# EAGLE library part KONASHI1.0 (library konashiv2)
konashiは、スマホ・タブレット端末と連携するフィジカルコンピューティングのためのツールキットです。
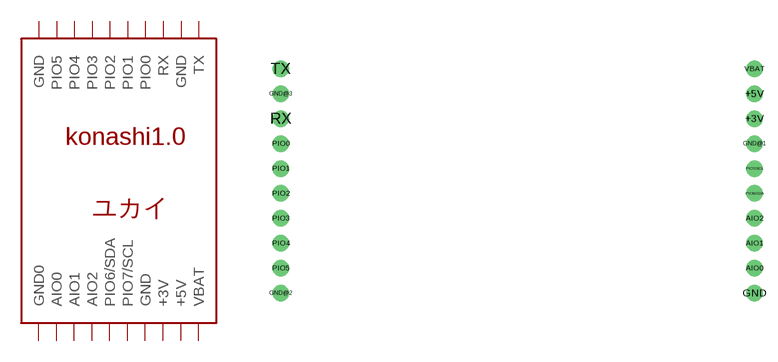
[diagram p0: symbol with the pads of KONASHI; footprint KONASHI]

Designator prefix -

## KONASHI1.0  [KONASHI]
+3V  +3V  pwr
+5V  +5V  pwr
AIO0  AIO0
AIO1  AIO1
AIO2  AIO2
GND  GND0  pwr
GND@1  GND  pwr
GND@2  GND  pwr
GND@3  GND  pwr
PIO0  PIO0
PIO1  PIO1
PIO2  PIO2
PIO3  PIO3
PIO4  PIO4
PIO5  PIO5
PIO6/SDA  PIO6/SDA
PIO7/SCL  PIO7/SCL
RX  RX
TX  TX
VBAT  VBAT  pwr

## Footprint KONASHI (pad centres in mm)
konashiは、スマホ・タブレット端末と連携するフィジカルコンピューティングのためのツールキットです。
drill 1 pad 1.676: +3V 50.206,22.85; +5V 50.206,25.39; AIO0 50.206,7.61; AIO1 50.206,10.15; AIO2 50.206,12.69; GND 50.206,5.07; GND@1 50.206,20.31; GND@2 1.946,5.07; GND@3 1.946,25.39; PIO0 1.946,20.31; PIO1 1.946,17.77; PIO2 1.946,15.23; PIO3 1.946,12.69; PIO4 1.946,10.15; PIO5 1.946,7.61; PIO6/SDA 50.206,15.23; PIO7/SCL 50.206,17.77; RX 1.946,22.85; TX 1.946,27.93; VBAT 50.206,27.93